# EAGLE library part PIN_1X9 (library FaBo-PIN)
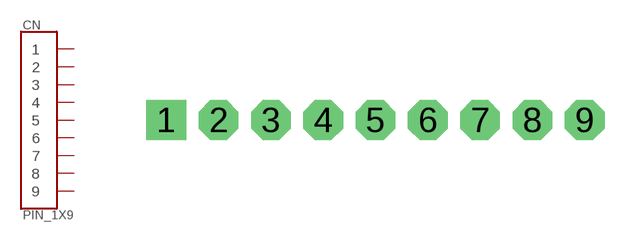
[diagram p29: symbol with the pads of PIN_1X9; footprint PIN_1X9]

Designator prefix CN

## PIN_1X9  [PIN_1X9]
1  1
2  2
3  3
4  4
5  5
6  6
7  7
8  8
9  9

## Footprint PIN_1X9 (pad centres in mm)
drill 1.1 pad 1.93 square: 1 -10.16,0
drill 1.1 pad 1.93 octagon: 2 -7.62,0; 3 -5.08,0; 4 -2.54,0; 5 0,0; 6 2.54,0; 7 5.08,0; 8 7.62,0; 9 10.16,0